# EAGLE library part J-LINK_NEEDLE_ADAPTER (library talons-connectors)
J-Link Needle Adapter See https://www.segger.com/jlink-needle-adapter.html
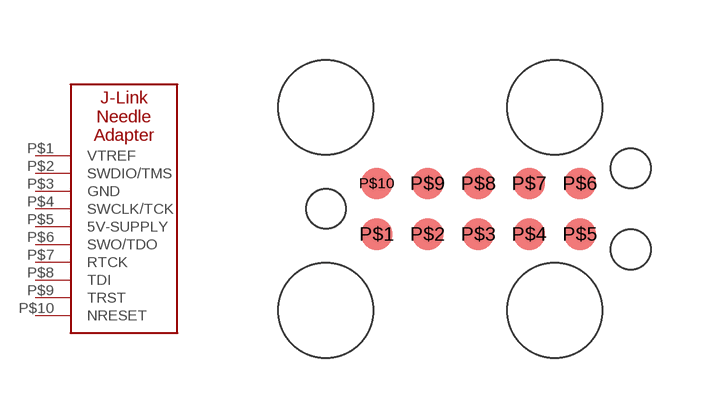
[diagram p0: symbol with the pads of J-LINK_NEEDLE_ADAPTER; footprint J-LINK_NEEDLE_ADAPTER]

Designator prefix -

## J-LINK_NEEDLE_ADAPTER  [J-LINK_NEEDLE_ADAPTER]
P$1  VTREF
P$2  SWDIO/TMS
P$3  GND  pwr
P$4  SWCLK/TCK
P$5  5V-SUPPLY  pwr
P$6  SWO/TDO
P$7  RTCK
P$8  TDI
P$9  TRST
P$10  NRESET

## Footprint J-LINK_NEEDLE_ADAPTER (pad centres in mm)
smd 0.787 x 0.787: P$1 -2.54,-0.635; P$2 -1.27,-0.635; P$3 0,-0.635; P$4 1.27,-0.635; P$5 2.54,-0.635; P$6 2.54,0.635; P$7 1.27,0.635; P$8 0,0.635; P$9 -1.27,0.635; P$10 -2.54,0.635
hole 2.375 at -3.81,2.54
hole 2.375 at -3.81,-2.54
hole 2.375 at 1.905,-2.54
hole 2.375 at 1.905,2.54
hole 0.991 at -3.81,0
hole 0.991 at 3.81,1.015
hole 0.991 at 3.81,-1.015